# EAGLE library part DMC_1,5/6- (library isystems)
MINI COMBICON-Steckverbinder im Raster 3,5mm Zweireihige Grundgehäuse für Reflow-Prozesse Mit Lock & Release-Verriegelung und Gewindeflansch, Steckrichtung parallel zur Leiterplatte
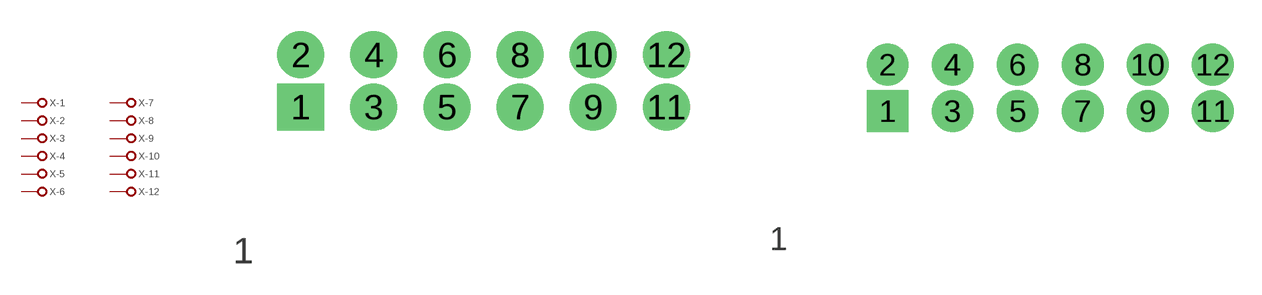
[diagram p27: symbol with the pads of DMC_1,5/6-G1-3,5_P20THR; footprints DMC_1,5/6-G1-3,5_P20THR, DMC_1,5/6-G1F-3,5-LR_P20THR]

Designator prefix X; gates -1=CONX1 -2=CONX1 -3=CONX1 -4=CONX1 -5=CONX1 -6=CONX1 -7=CONX1 -8=CONX1 -9=CONX1 -10=CONX1 -11=CONX1 -12=CONX1

## DMC_1,5/6-G1-3,5_P20THR  [DMC_1,5/6-G1-3,5_P20THR]
1  -1:P
2  -2:P
3  -3:P
4  -4:P
5  -5:P
6  -6:P
7  -7:P
8  -8:P
9  -9:P
10  -10:P
11  -11:P
12  -12:P

## DMC_1,5/6-G1F-3,5-LR_P20THR  [DMC_1,5/6-G1F-3,5-LR_P20THR]
Pads as for DMC_1,5/6-G1-3,5_P20THR

## Footprint DMC_1,5/6-G1-3,5_P20THR (pad centres in mm)
drill 1.5 pad 2.2 square: 1 -8.75,0
drill 1.5 pad 2.2: 2 -8.75,2.5; 3 -5.25,0; 4 -5.25,2.5; 5 -1.75,0; 6 -1.75,2.5; 7 1.75,0; 8 1.75,2.5; 9 5.25,0; 10 5.25,2.5; 11 8.75,0; 12 8.75,2.5

## Footprint DMC_1,5/6-G1F-3,5-LR_P20THR (pad centres in mm)
drill 1.5 pad 2.2 square: 1 -8.75,0
drill 1.5 pad 2.2: 2 -8.75,2.5; 3 -5.25,0; 4 -5.25,2.5; 5 -1.75,0; 6 -1.75,2.5; 7 1.75,0; 8 1.75,2.5; 9 5.25,0; 10 5.25,2.5; 11 8.75,0; 12 8.75,2.5